# Altium footprint library TRISECT_Custom.PcbLib: 9 footprints
Each footprint in its own frame and in the unit in brackets; x right, y up, seen from the top. Pads: shape width x height; smd on the part's side, far side on the other; paste and mask are expansions set on the pad; w line width, h text height; cw(c..) or ccw(c..) is an arc to the next point about the centre after c.
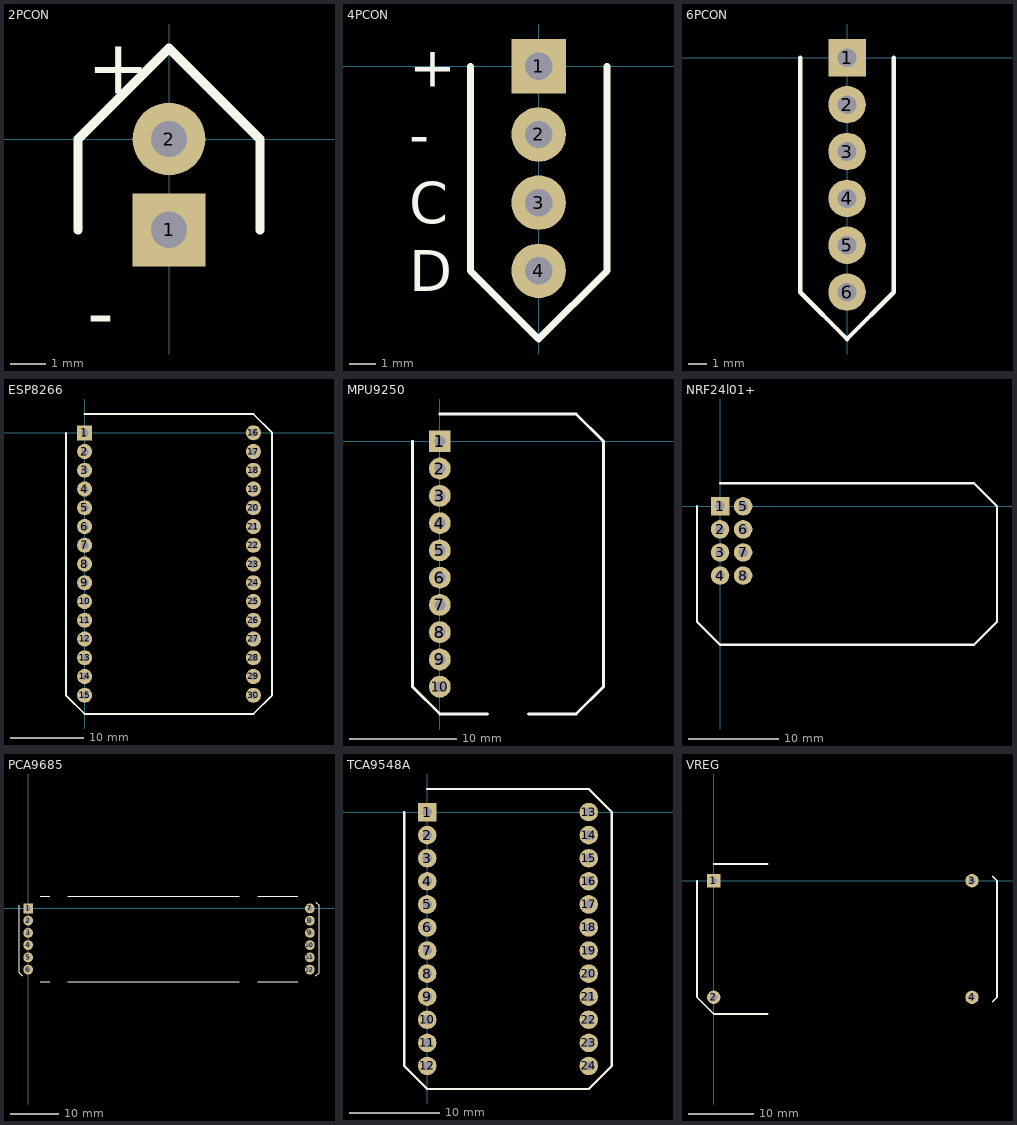
[diagram p0: the footprints below, top view; thin cyan lines are the x and y axes]

## 2PCON [mil] "2 pin connector"
pads (2):
  rect 80x80 hole 40: 1(0,-100)
  round 80 hole 40: 2(0,0)
Top Overlay:
  lines w10: -100,-100 -100,0 0,100 100,0 100,-100
  text "-" at -90,-219.99 h60
  text "+" at -90,50 h60

## 4PCON [mil] "4 pin connector"
pads (4):
  rect 80x80 hole 40: 1(0,0)
  round 80 hole 40: 2(0,-100) 3(0,-200) 4(0,-300)
Top Overlay:
  lines w10: -100,0 -100,-300 0,-400 100,-300 100,0
  text "C" at -190,-230 h60
  text "-" at -190,-129.99 h60
  text "+" at -190,-30 h60
  text "D" at -190,-330 h60

## 6PCON [mil] "6 pin connector"
pads (6):
  rect 80x80 hole 40: 1(0,0)
  round 80 hole 40: 2(0,-100) 3(0,-200) 4(0,-300) 5(0,-400) 6(0,-500)
Top Overlay:
  lines w10: -100,0 -100,-500 0,-600 100,-500 100,0

## ESP8266 [mil] "ESP8266 Basic Pinned Through Hole (NodeMCU)"
pads (30):
  rect 80x80 hole 40: 1(0,0)
  round 80 hole 40: 2(0,-100) 3(0,-200) 4(0,-300) 5(0,-400) 6(0,-500) 7(0,-600) 8(0,-700) 9(0,-800) 10(0,-900) 11(0,-1000) 12(0,-1100) 13(0,-1200) 14(0,-1300) 15(0,-1400) 16(900,0) 17(900,-100) 18(900,-200) 19(900,-300) 20(900,-400) 21(900,-500) 22(900,-600) 23(900,-700) 24(900,-800) 25(900,-900) 26(900,-1000) 27(900,-1100) 28(900,-1200) 29(900,-1300) 30(900,-1400)
Top Overlay:
  lines w10: -100,0 -100,-1400 0,-1500 900,-1500 1000,-1400 1000,0 900,100 0,100

## MPU9250 [mil] "Basic pinout for MPU9250"
pads (10):
  rect 80x80 hole 40: 1(0,0)
  round 80 hole 40: 2(0,-100) 3(0,-200) 4(0,-300) 5(0,-400) 6(0,-500) 7(0,-600) 8(0,-700) 9(0,-800) 10(0,-900)
Top Overlay:
  lines w10: -100,0 -100,-900 0,-1000 175,-1000 ; 0,100 500,100 600,0 600,-900 500,-1000 325,-1000

## NRF24l01+ [mil] "NRF24l01+ footprint"
pads (8):
  rect 80x80 hole 40: 1(0,0)
  round 80 hole 40: 2(0,-100) 3(0,-200) 4(0,-300) 5(100,0) 6(100,-100) 7(100,-200) 8(100,-300)
Top Overlay:
  lines w10: -100,0 -100,-500 0,-600 1100,-600 1200,-500 1200,0 1100,100 0,100

## PCA9685 [mil] "PCA9685 pins & silk"
pads (12):
  rect 80x80 hole 40: 1(0,0)
  round 80 hole 40: 2(0,-100) 3(0,-200) 4(0,-300) 5(0,-400) 6(0,-500) 7(2300,0) 8(2300,-100) 9(2300,-200) 10(2300,-300) 11(2300,-400) 12(2300,-500)
Top Overlay:
  lines w10: -75,25 -75,-525 -50,-550 ; 100,-600 175,-600 ; 100,100 175,100 ; 325,-600 1725,-600 ; 325,100 1725,100 ; 1875,-600 2200,-600 ; 1875,100 2200,100 ; 2350,-550 2375,-525 2375,25 2350,50

## TCA9548A [mil] "TCA9548A basic pinout"
pads (24):
  rect 80x80 hole 40: 1(0,0)
  round 80 hole 40: 2(0,-100) 3(0,-200) 4(0,-300) 5(0,-400) 6(0,-500) 7(0,-600) 8(0,-700) 9(0,-800) 10(0,-900) 11(0,-1000) 12(0,-1100) 13(700,0) 14(700,-100) 15(700,-200) 16(700,-300) 17(700,-400) 18(700,-500) 19(700,-600) 20(700,-700) 21(700,-800) 22(700,-900) 23(700,-1000) 24(700,-1100)
Top Overlay:
  lines w10: -100,0 -100,-1100 0,-1200 700,-1200 800,-1100 800,0 700,100 0,100

## VREG [mil] "Voltage regulator"
pads (4):
  rect 80x80 hole 40: 1(0,0)
  round 80 hole 40: 2(0,-700) 3(1550,0) 4(1550,-700)
Top Overlay:
  lines w10: -100,0 -100,-700 0,-800 325,-800 ; 0,100 325,100 ; 1675,-725 1700,-700 1700,0 1675,25